# EAGLE library part NC7WZ125K8X (library Fairchild_By_element14_Batch_1)
UHS Dual Buffer with 3-STATE Outputs
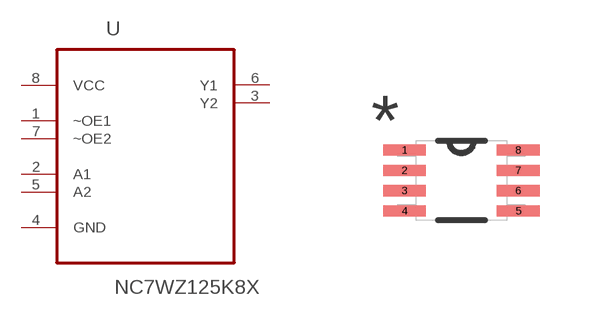
[diagram p371: symbol with the pads of SOP50P310X90-8N; footprint SOP50P310X90-8N]

Designator prefix U

## NC7WZ125K8X (MPN: NC7WZ125K8X; OC_FARNELL: 1417646; OC_NEWARK: 34C1586; PACKAGE: SO-8; SUPPLIER: FAIRCHILD SEMICONDUCTOR)  [SOP50P310X90-8N]
1  ~OE1  in
2  A1  in
3  Y2  out
4  GND  pas
5  A2  in
6  Y1  out
7  ~OE2  in
8  VCC  pwr

## Footprint SOP50P310X90-8N (pad centres in mm)
smd 1.067 x 0.279: 1 -1.422,0.762; 2 -1.422,0.254; 3 -1.422,-0.254; 4 -1.422,-0.762; 5 1.422,-0.762; 6 1.422,-0.254; 7 1.422,0.254; 8 1.422,0.762